# Altium footprint library LED_DISPLAY.PcbLib: 1 footprints
Each footprint in its own frame and in the unit in brackets; x right, y up, seen from the top. Pads: shape width x height; smd on the part's side, far side on the other; paste and mask are expansions set on the pad; w line width, h text height; cw(c..) or ccw(c..) is an arc to the next point about the centre after c.
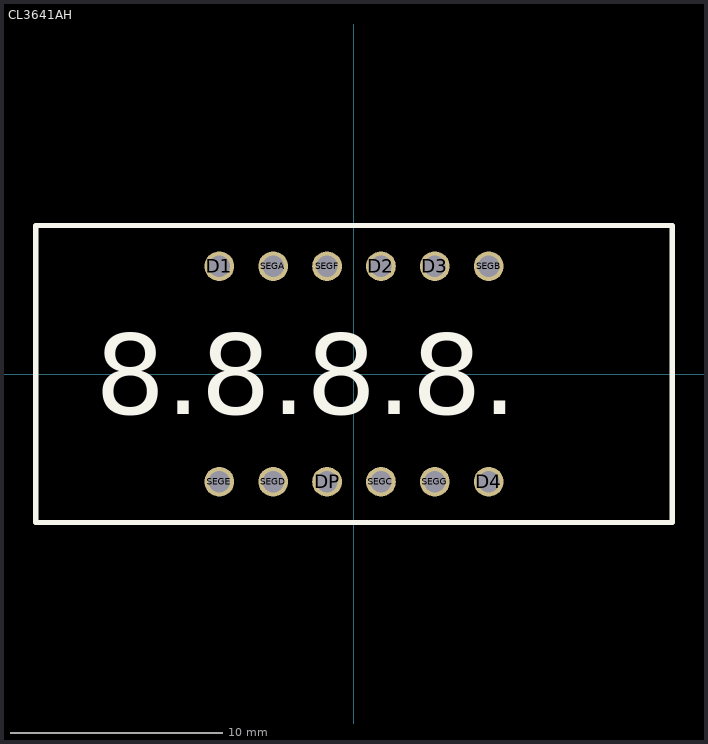
[diagram p0: the footprint, top view; thin cyan lines are the x and y axes]

## CL3641AH [mm] "4 digit 7 segment led common anode led display"
height 0.183
pads (12):
  round 1.406 hole 1: D1(-6.35,5.08) D2(1.27,5.08) D3(3.81,5.08) D4(6.35,-5.08) DP(-1.27,-5.08) SEGA(-3.81,5.08) SEGB(6.35,5.08) SEGC(1.27,-5.08) SEGD(-3.81,-5.08) SEGE(-6.35,-5.08) SEGF(-1.27,5.08) SEGG(3.81,-5.08)
Top Overlay:
  lines w0.254: -15,-7 15,-7 15,7 -15,7 -15,-7
  text "8.8.8.8." at -12.192,-1.905 h3.81
3D body: height 0.25, standoff 0, extent -14.986,-6.985 14.986,6.985